# Altium schematic symbol library LM2596 module.Schlib: 1 symbol
Pins are listed as number, name and electrical type; pins without a type are passive.

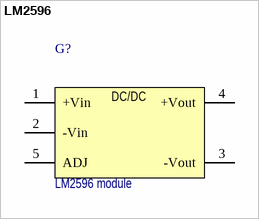
[diagram p0: symbol LM2596]

## LM2596
designator G?  Наименование: LM2596 module  (hidden comment: LM2596)
DC/DC converter; Назначение: DC-DC преобразователь; Потребление, Вт: 20; DataSheet: https://static.chipdip.ru/lib/641/DOC001641867.pdf
footprint LM2596 module
pins: 1 +Vin (power), 2 -Vin (power), 3 -Vout (power), 4 +Vout (power), 5 ADJ (power)
text: DC/DC